# EAGLE library part 662016231722 (library Wuerth_Elektronik_eiCan_Wire_to_Board_Connectors)
WR-MPC3 3.00mm Male Dual Row SMT Angled Header SMT Fitting Nail Clip, 16 Pins=>Code : Con_WTB_MPC3_2_PCB_SMT_662016231722 <http://katalog.we-online.de/media/thumbs2/eican/thb_Con_WTB_MPC3_2_PCB_SMT_6620xx231722_pf2.jpg> Details see: http://katalog.we-online.de/en/em/662_0xx_231_722 Created 2014-06-06, Karrer Zheng 2014 (C) Würth Elektronik
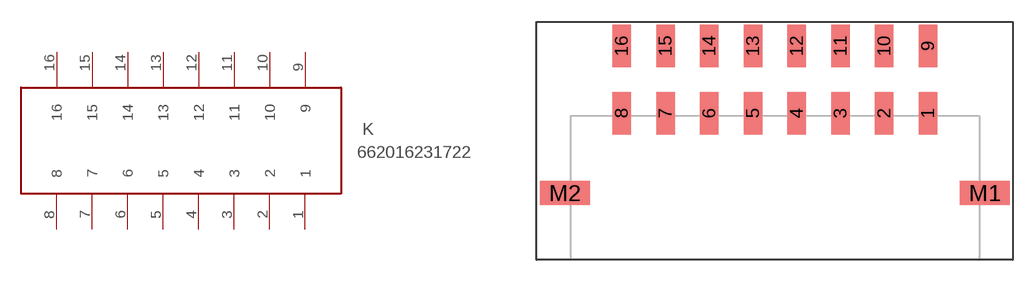
[diagram p377: symbol with the pads of 662016231722; footprint 662016231722]

Designator prefix K

## 662016231722  [662016231722]
1  1
2  2
3  3
4  4
5  5
6  6
7  7
8  8
9  9
10  10
11  11
12  12
13  13
14  14
15  15
16  16

## Footprint 662016231722 (pad centres in mm)
WR-MPC3 3.00mm Male Dual Row SMT Angled Header SMT Fitting Nail Clip, 16 Pins
smd 1.27 x 2.92: 1 0,-2.31; 2 -3,-2.31; 3 -6,-2.31; 4 -9,-2.31; 5 -12,-2.31; 6 -15,-2.31; 7 -18,-2.31; 8 -21,-2.31; 9 0,2.31; 10 -3,2.31; 11 -6,2.31; 12 -9,2.31; 13 -12,2.31; 14 -15,2.31; 15 -18,2.31; 16 -21,2.31
smd 3.43 x 1.65: M1 3.895,-7.79; M2 -24.895,-7.79